# EAGLE library part 5M160ZE64A5N (library custom_dzmitry)
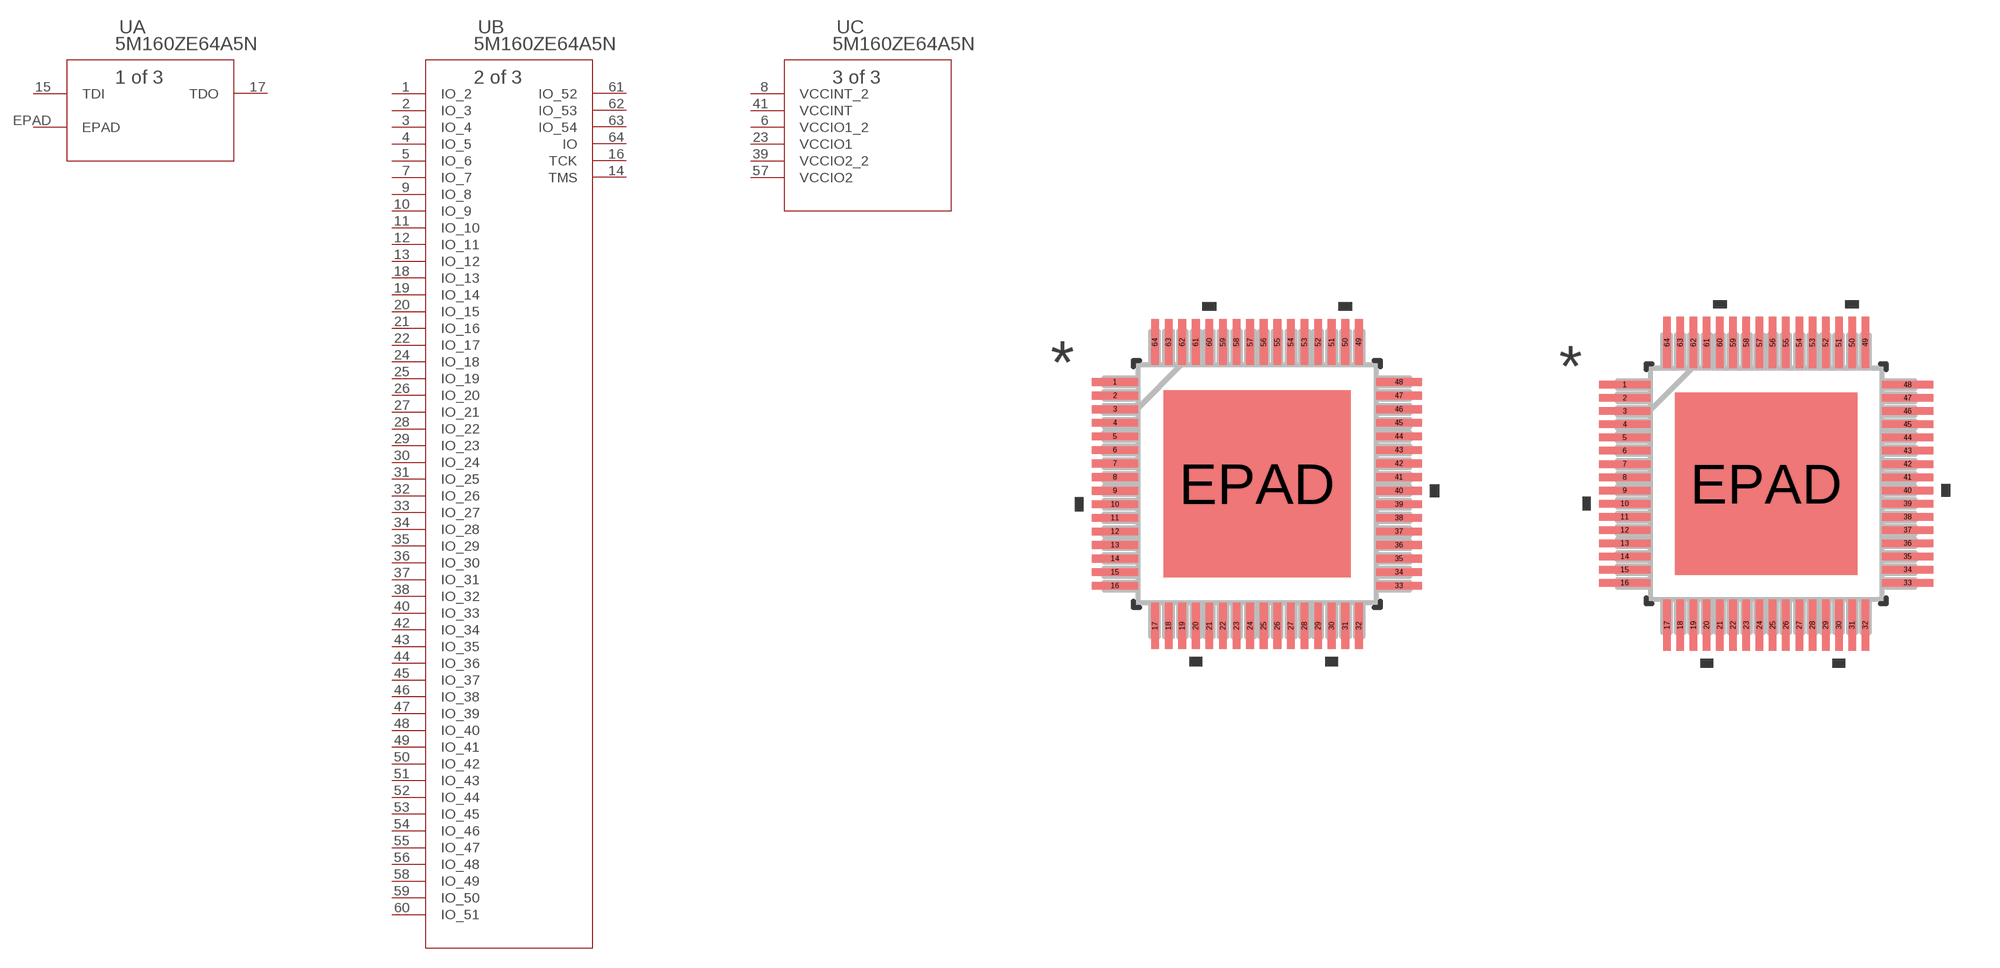
[diagram p4: symbol with the pads of EQFP64_A-1P20_D2-4P5_INT; footprints EQFP64_A-1P20_D2-4P5_INT, EQFP64_A-1P20_D2-4P5_INT-M]

Designator prefix U; gates A=5M160ZE64A5N B=5M160ZE64A5N_A C=5M160ZE64A5N_B

## 5M160ZE64A5N (BUILT_BY: EMA_Cory; COPYRIGHT: Copyright (C) 2018 Accelerated Designs. All rights reserved; DATASHEET: https://www.intel.com/content/dam/www/programmable/us/en/pdfs/literature/hb/max-v/max5_handbook.pdf; MANUFACTURER_PART_NUMBER: 5M160ZE64A5N; SOURCELIBRARY: Intel_2020-03-10; VENDOR: Intel)  [EQFP64_A-1P20_D2-4P5_INT]
1  B:IO_2
2  B:IO_3
3  B:IO_4
4  B:IO_5
5  B:IO_6
6  C:VCCIO1_2  pwr
7  B:IO_7
8  C:VCCINT_2  pwr
9  B:IO_8
10  B:IO_9
11  B:IO_10
12  B:IO_11
13  B:IO_12
14  B:TMS  pas
15  A:TDI  in
16  B:TCK  pas
17  A:TDO  out
18  B:IO_13
19  B:IO_14
20  B:IO_15
21  B:IO_16
22  B:IO_17
23  C:VCCIO1  pwr
24  B:IO_18
25  B:IO_19
26  B:IO_20
27  B:IO_21
28  B:IO_22
29  B:IO_23
30  B:IO_24
31  B:IO_25
32  B:IO_26
33  B:IO_27
34  B:IO_28
35  B:IO_29
36  B:IO_30
37  B:IO_31
38  B:IO_32
39  C:VCCIO2_2  pwr
40  B:IO_33
41  C:VCCINT  pwr
42  B:IO_34
43  B:IO_35
44  B:IO_36
45  B:IO_37
46  B:IO_38
47  B:IO_39
48  B:IO_40
49  B:IO_41
50  B:IO_42
51  B:IO_43
52  B:IO_44
53  B:IO_45
54  B:IO_46
55  B:IO_47
56  B:IO_48
57  C:VCCIO2  pwr
58  B:IO_49
59  B:IO_50
60  B:IO_51
61  B:IO_52
62  B:IO_53
63  B:IO_54
64  B:IO
EPAD  A:EPAD  pas

## 5M160ZE64A5NEQFP64_A-1P20_D2-4P5_INT-M (BUILT_BY: EMA_Cory; COPYRIGHT: Copyright (C) 2018 Accelerated Designs. All rights reserved; DATASHEET: https://www.intel.com/content/dam/www/programmable/us/en/pdfs/literature/hb/max-v/max5_handbook.pdf; MANUFACTURER_PART_NUMBER: 5M160ZE64A5N; SOURCELIBRARY: Intel_2020-03-10; VENDOR: Intel)  [EQFP64_A-1P20_D2-4P5_INT-M]
Pads as for EQFP64_A-1P20_D2-4P5_INT

## 5M160ZE64A5NEQFP64_A-1P20_D2-4P5_INT-L (BUILT_BY: EMA_Cory; COPYRIGHT: Copyright (C) 2018 Accelerated Designs. All rights reserved; DATASHEET: https://www.intel.com/content/dam/www/programmable/us/en/pdfs/literature/hb/max-v/max5_handbook.pdf; MANUFACTURER_PART_NUMBER: 5M160ZE64A5N; SOURCELIBRARY: Intel_2020-03-10; VENDOR: Intel)  [EQFP64_A-1P20_D2-4P5_INT-L]
Pads as for EQFP64_A-1P20_D2-4P5_INT

## Footprint EQFP64_A-1P20_D2-4P5_INT (pad centres in mm)
smd 1.346 x 0.229: 1 -4.178,3; 2 -4.178,2.6; 3 -4.178,2.2; 4 -4.178,1.8; 5 -4.178,1.4; 6 -4.178,1; 7 -4.178,0.6; 8 -4.178,0.2; 9 -4.178,-0.2; 10 -4.178,-0.6; 11 -4.178,-1; 12 -4.178,-1.4; 13 -4.178,-1.8; 14 -4.178,-2.2; 15 -4.178,-2.6; 16 -4.178,-3; 33 4.178,-3; 34 4.178,-2.6; 35 4.178,-2.2; 36 4.178,-1.8; 37 4.178,-1.4; 38 4.178,-1; 39 4.178,-0.6; 40 4.178,-0.2; 41 4.178,0.2; 42 4.178,0.6; 43 4.178,1; 44 4.178,1.4; 45 4.178,1.8; 46 4.178,2.2; 47 4.178,2.6; 48 4.178,3
smd 0.229 x 1.346: 17 -3,-4.178; 18 -2.6,-4.178; 19 -2.2,-4.178; 20 -1.8,-4.178; 21 -1.4,-4.178; 22 -1,-4.178; 23 -0.6,-4.178; 24 -0.2,-4.178; 25 0.2,-4.178; 26 0.6,-4.178; 27 1,-4.178; 28 1.4,-4.178; 29 1.8,-4.178; 30 2.2,-4.178; 31 2.6,-4.178; 32 3,-4.178; 49 3,4.178; 50 2.6,4.178; 51 2.2,4.178; 52 1.8,4.178; 53 1.4,4.178; 54 1,4.178; 55 0.6,4.178; 56 0.2,4.178; 57 -0.2,4.178; 58 -0.6,4.178; 59 -1,4.178; 60 -1.4,4.178; 61 -1.8,4.178; 62 -2.2,4.178; 63 -2.6,4.178; 64 -3,4.178
smd 5.512 x 5.512: EPAD 0,0

## Footprint EQFP64_A-1P20_D2-4P5_INT-M (pad centres in mm)
smd 1.549 x 0.229: 1 -4.28,3; 2 -4.28,2.6; 3 -4.28,2.2; 4 -4.28,1.8; 5 -4.28,1.4; 6 -4.28,1; 7 -4.28,0.6; 8 -4.28,0.2; 9 -4.28,-0.2; 10 -4.28,-0.6; 11 -4.28,-1; 12 -4.28,-1.4; 13 -4.28,-1.8; 14 -4.28,-2.2; 15 -4.28,-2.6; 16 -4.28,-3; 33 4.28,-3; 34 4.28,-2.6; 35 4.28,-2.2; 36 4.28,-1.8; 37 4.28,-1.4; 38 4.28,-1; 39 4.28,-0.6; 40 4.28,-0.2; 41 4.28,0.2; 42 4.28,0.6; 43 4.28,1; 44 4.28,1.4; 45 4.28,1.8; 46 4.28,2.2; 47 4.28,2.6; 48 4.28,3
smd 0.229 x 1.549: 17 -3,-4.28; 18 -2.6,-4.28; 19 -2.2,-4.28; 20 -1.8,-4.28; 21 -1.4,-4.28; 22 -1,-4.28; 23 -0.6,-4.28; 24 -0.2,-4.28; 25 0.2,-4.28; 26 0.6,-4.28; 27 1,-4.28; 28 1.4,-4.28; 29 1.8,-4.28; 30 2.2,-4.28; 31 2.6,-4.28; 32 3,-4.28; 49 3,4.28; 50 2.6,4.28; 51 2.2,4.28; 52 1.8,4.28; 53 1.4,4.28; 54 1,4.28; 55 0.6,4.28; 56 0.2,4.28; 57 -0.2,4.28; 58 -0.6,4.28; 59 -1,4.28; 60 -1.4,4.28; 61 -1.8,4.28; 62 -2.2,4.28; 63 -2.6,4.28; 64 -3,4.28
smd 5.512 x 5.512: EPAD 0,0

## Footprint EQFP64_A-1P20_D2-4P5_INT-L (pad centres in mm)
smd 1.143 x 0.127: 1 -4.077,3; 2 -4.077,2.6; 3 -4.077,2.2; 4 -4.077,1.8; 5 -4.077,1.4; 6 -4.077,1; 7 -4.077,0.6; 8 -4.077,0.2; 9 -4.077,-0.2; 10 -4.077,-0.6; 11 -4.077,-1; 12 -4.077,-1.4; 13 -4.077,-1.8; 14 -4.077,-2.2; 15 -4.077,-2.6; 16 -4.077,-3; 33 4.077,-3; 34 4.077,-2.6; 35 4.077,-2.2; 36 4.077,-1.8; 37 4.077,-1.4; 38 4.077,-1; 39 4.077,-0.6; 40 4.077,-0.2; 41 4.077,0.2; 42 4.077,0.6; 43 4.077,1; 44 4.077,1.4; 45 4.077,1.8; 46 4.077,2.2; 47 4.077,2.6; 48 4.077,3
smd 0.127 x 1.143: 17 -3,-4.077; 18 -2.6,-4.077; 19 -2.2,-4.077; 20 -1.8,-4.077; 21 -1.4,-4.077; 22 -1,-4.077; 23 -0.6,-4.077; 24 -0.2,-4.077; 25 0.2,-4.077; 26 0.6,-4.077; 27 1,-4.077; 28 1.4,-4.077; 29 1.8,-4.077; 30 2.2,-4.077; 31 2.6,-4.077; 32 3,-4.077; 49 3,4.077; 50 2.6,4.077; 51 2.2,4.077; 52 1.8,4.077; 53 1.4,4.077; 54 1,4.077; 55 0.6,4.077; 56 0.2,4.077; 57 -0.2,4.077; 58 -0.6,4.077; 59 -1,4.077; 60 -1.4,4.077; 61 -1.8,4.077; 62 -2.2,4.077; 63 -2.6,4.077; 64 -3,4.077
smd 5.512 x 5.512: EPAD 0,0